# EAGLE library part CON_USB_FCI_MICRO_B_10118194 (library ek-tm4c129exl)
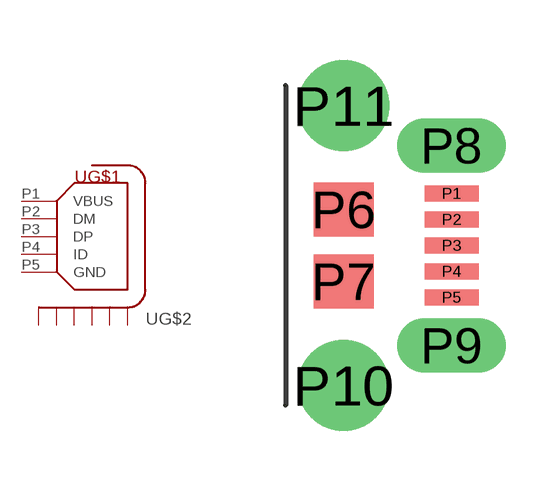
[diagram p0: symbol with the pads of CON_USB_MICRO_B_FCI_10118194; footprint CON_USB_MICRO_B_FCI_10118194]

Designator prefix -; gates G$1=MICRO_USB_5 G$2=SHIELD6

## CON_USB_FCI_MICRO_B_10118194  [CON_USB_MICRO_B_FCI_10118194]
P1  G$1:VBUS
P2  G$1:DM
P3  G$1:DP
P4  G$1:ID
P5  G$1:GND
P6  G$2:S1  pas
P7  G$2:S2  pas
P8  G$2:S3  pas
P9  G$2:S4  pas
P10  G$2:S5  pas
P11  G$2:S6  pas

## Footprint CON_USB_MICRO_B_FCI_10118194 (pad centres in mm)
smd 1.35 x 0.4: P1 2.7,1.3; P2 2.7,0.65; P3 2.7,0; P4 2.7,-0.65; P5 2.7,-1.3
smd 1.5 x 1.35: P6 0,0.9; P7 0,-0.9
drill 0.85 long: P8 2.7,2.5; P9 2.7,-2.5
drill 1.15 pad 2.286: P10 0,-3.5; P11 0,3.5